# EAGLE library part PIC18F4550 (library usevolt)
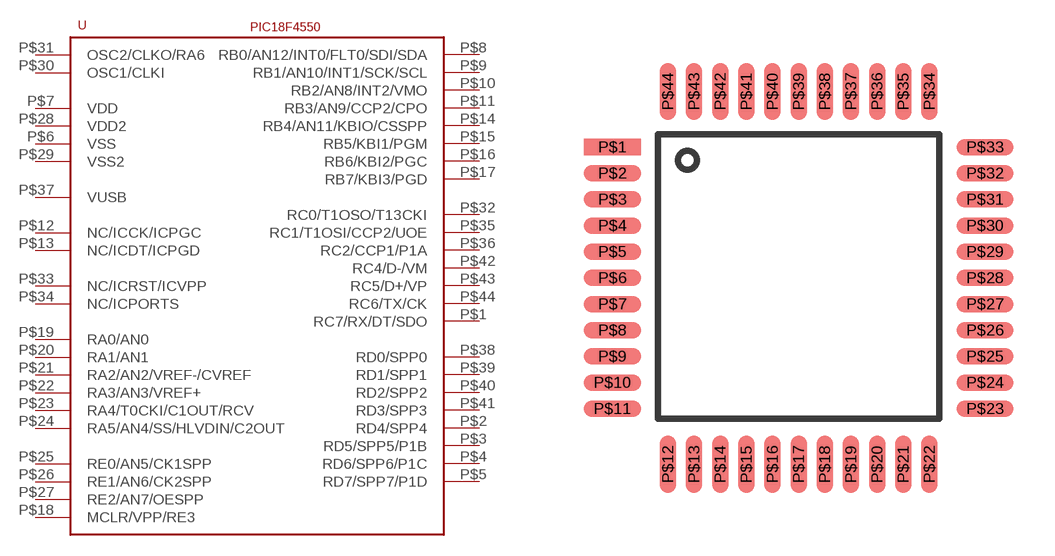
[diagram p4: symbol with the pads of QFP44; footprint QFP44]

Designator prefix U

## PIC18F4550QFP  [QFP44]
P$1  RC7/RX/DT/SDO
P$2  RD4/SPP4
P$3  RD5/SPP5/P1B
P$4  RD6/SPP6/P1C
P$5  RD7/SPP7/P1D
P$6  VSS
P$7  VDD
P$8  RB0/AN12/INT0/FLT0/SDI/SDA
P$9  RB1/AN10/INT1/SCK/SCL
P$10  RB2/AN8/INT2/VMO
P$11  RB3/AN9/CCP2/CPO
P$12  NC/ICCK/ICPGC
P$13  NC/ICDT/ICPGD
P$14  RB4/AN11/KBIO/CSSPP
P$15  RB5/KBI1/PGM
P$16  RB6/KBI2/PGC
P$17  RB7/KBI3/PGD
P$18  MCLR/VPP/RE3
P$19  RA0/AN0
P$20  RA1/AN1
P$21  RA2/AN2/VREF-/CVREF
P$22  RA3/AN3/VREF+
P$23  RA4/T0CKI/C1OUT/RCV
P$24  RA5/AN4/SS/HLVDIN/C2OUT
P$25  RE0/AN5/CK1SPP
P$26  RE1/AN6/CK2SPP
P$27  RE2/AN7/OESPP
P$28  VDD2
P$29  VSS2
P$30  OSC1/CLKI
P$31  OSC2/CLKO/RA6
P$32  RC0/T1OSO/T13CKI
P$33  NC/ICRST/ICVPP
P$34  NC/ICPORTS
P$35  RC1/T1OSI/CCP2/UOE
P$36  RC2/CCP1/P1A
P$37  VUSB
P$38  RD0/SPP0
P$39  RD1/SPP1
P$40  RD2/SPP2
P$41  RD3/SPP3
P$42  RC4/D-/VM
P$43  RC5/D+/VP
P$44  RC6/TX/CK

## Footprint QFP44 (pad centres in mm)
smd 1.75 x 0.5: P$1 -5.08,3.81; P$2 -5.08,3.01; P$3 -5.08,2.21; P$4 -5.08,1.41; P$5 -5.08,0.61; P$6 -5.08,-0.19; P$7 -5.08,-0.99; P$8 -5.08,-1.79; P$9 -5.08,-2.59; P$10 -5.08,-3.39; P$11 -5.08,-4.19; P$23 6.32,-4.19; P$24 6.32,-3.39; P$25 6.32,-2.59; P$26 6.32,-1.79; P$27 6.32,-0.99; P$28 6.32,-0.19; P$29 6.32,0.61; P$30 6.32,1.41; P$31 6.32,2.21; P$32 6.32,3.01; P$33 6.32,3.81
smd 0.5 x 1.75: P$12 -3.38,-5.89; P$13 -2.58,-5.89; P$14 -1.78,-5.89; P$15 -0.98,-5.89; P$16 -0.18,-5.89; P$17 0.62,-5.89; P$18 1.42,-5.89; P$19 2.22,-5.89; P$20 3.02,-5.89; P$21 3.82,-5.89; P$22 4.62,-5.89; P$34 4.62,5.51; P$35 3.82,5.51; P$36 3.02,5.51; P$37 2.22,5.51; P$38 1.42,5.51; P$39 0.62,5.51; P$40 -0.18,5.51; P$41 -0.98,5.51; P$42 -1.78,5.51; P$43 -2.58,5.51; P$44 -3.38,5.51